# EAGLE library part EL34 (library wheat)
EL34 octal
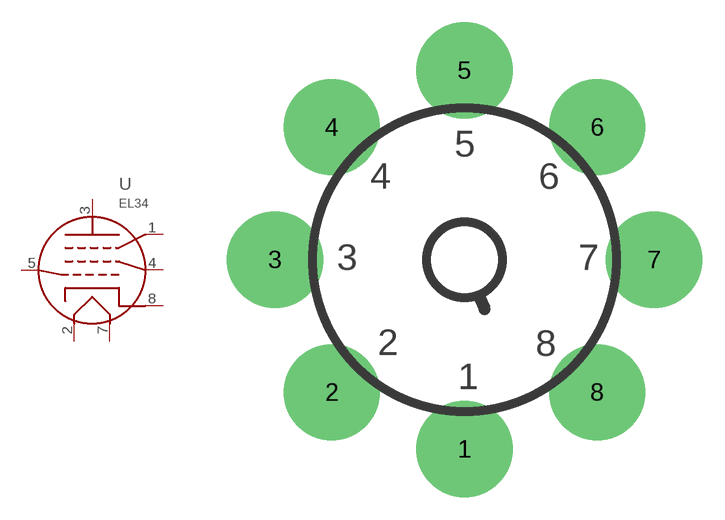
[diagram p91: symbol with the pads of OCTAL_BOTTOM; footprint OCTAL_BOTTOM]

Designator prefix -

## EL34  [OCTAL_BOTTOM]
1  G3  pas
2  F1  pas
3  P  pas
4  G2  pas
5  G1  pas
7  F2  pas
8  K  pas

## Footprint OCTAL_BOTTOM (pad centres in mm)
TUBE SOCKET, OCTAL, PCB, BOTTOM SIDE
drill 2.54 pad 6.452: 1 0,-12.7; 2 -8.89,-8.89; 3 -12.7,0; 4 -8.89,8.89; 5 0,12.7; 6 8.89,8.89; 7 12.7,0; 8 8.89,-8.89